# Altium schematic symbol library lib_connectors.SchLib: 1 symbol
Pins are listed as number, name and electrical type; pins without a type are passive.

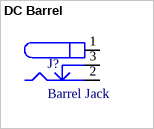
[diagram p0: symbol DC Barrel]

## DC Barrel
designator J?, comment Barrel Jack
pins: 1 ON, 2 ON, 3 ON